# Altium schematic symbol library WR-MCX.SchLib: 13 symbols
Pins are listed as number, name and electrical type; pins without a type are passive.

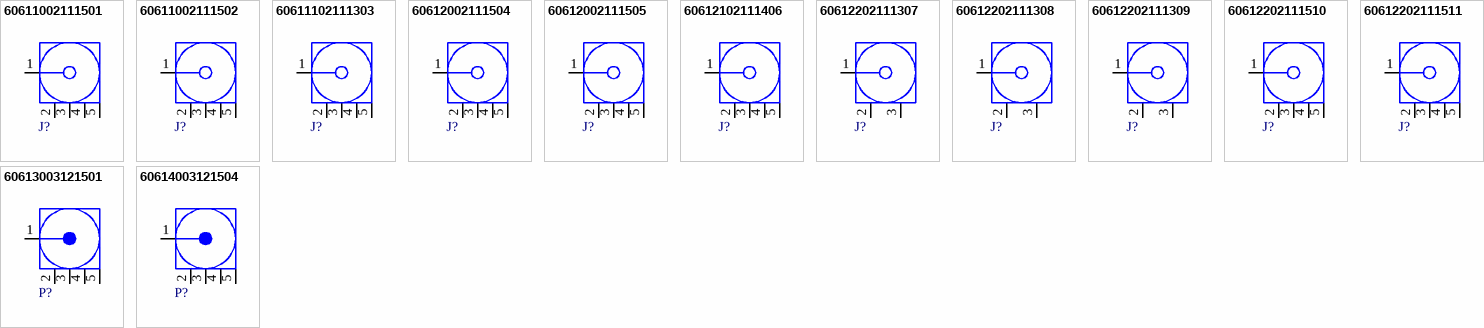
[diagram p0: symbols 60611002111501 to 60614003121504]

## 60611002111501
designator J?  (value not drawn)
WR-MCX PCB Jack, THT, Right Angle, Solder Leg 3.94mm; Manufacturer: Wurth Elektronik; Center Contact Diameter: 0.96mm; Connector Type: MCX; Frequency Range: DC~6GHz; Impedance: 50Ω; Interface Type: IEC 61169-36; ComponentLink1Description: Website Link; ComponentLink1URL: https://www.we-online.com/redexpert/article/60611002111501?ad; ComponentLink2Description: Datasheet Link; ComponentLink2URL: https://www.we-online.com/redexpert/spec/60611002111501?ad; Manufacturer Part Number: 60611002111501; Category: Coaxial Connectors; Match Code: WR-MCX; Mount: Through Hole; Operating Temperature Max: 155°C; Operating Temperature Min: -55°C; Packaging: Tray; Gender: Jack; Orientation: Right Angle
footprint 60611002111501
pins: 1 Signal "Signal Pin", 2 GND, 3 GND, 4 GND, 5 GND

## 60611002111502
designator J?  (value not drawn)
WR-MCX PCB Jack, THT, Right Angle, Solder Leg 1.73mm; Manufacturer: Wurth Elektronik; Center Contact Diameter: 0.96mm; Connector Type: MCX; Frequency Range: DC~6GHz; Impedance: 50Ω; Interface Type: IEC 61169-36; ComponentLink1Description: Website Link; ComponentLink1URL: https://www.we-online.com/redexpert/article/60611002111502?ad; ComponentLink2Description: Datasheet Link; ComponentLink2URL: https://www.we-online.com/redexpert/spec/60611002111502?ad; Manufacturer Part Number: 60611002111502; Category: Coaxial Connectors; Match Code: WR-MCX; Mount: Through Hole; Operating Temperature Max: 155°C; Operating Temperature Min: -55°C; Packaging: Tray; Gender: Jack; Orientation: Right Angle
footprint 60611002111502
pins: 1 Signal "Signal Pin", 2 GND, 3 GND, 4 GND, 5 GND

## 60611102111303
designator J?  (value not drawn)
WR-MCX PCB Jack, SMT, Right Angle; Manufacturer: Wurth Elektronik; Center Contact Diameter: 0.96mm; Connector Type: MCX; Frequency Range: DC~6GHz; Impedance: 50Ω; Interface Type: IEC 61169-36; ComponentLink1Description: Website Link; ComponentLink1URL: https://www.we-online.com/redexpert/article/60611102111303?ad; ComponentLink2Description: Datasheet Link; ComponentLink2URL: https://www.we-online.com/redexpert/spec/60611102111303?ad; Manufacturer Part Number: 60611102111303; Category: Coaxial Connectors; Match Code: WR-MCX; Mount: Surface Mount; Operating Temperature Max: 155°C; Operating Temperature Min: -55°C; Packaging: Tape and Reel; Gender: Jack; Orientation: Right Angle
footprint 60611102111303
pins: 1 Signal "Signal Pin", 2 GND, 3 GND, 4 GND, 5 GND

## 60612002111504
designator J?  (value not drawn)
WR-MCX PCB Jack, THT, Straight, Solder Leg 3.94mm; Manufacturer: Wurth Elektronik; Center Contact Diameter: 0.96mm; Connector Type: MCX; Frequency Range: DC~6GHz; Impedance: 50Ω; Interface Type: IEC 61169-36; ComponentLink1Description: Website Link; ComponentLink1URL: https://www.we-online.com/redexpert/article/60612002111504?ad; ComponentLink2Description: Datasheet Link; ComponentLink2URL: https://www.we-online.com/redexpert/spec/60612002111504?ad; Manufacturer Part Number: 60612002111504; Category: Coaxial Connectors; Match Code: WR-MCX; Mount: Through Hole; Operating Temperature Max: 155°C; Operating Temperature Min: -55°C; Packaging: Tray; Gender: Jack; Orientation: Straight
footprint 60612002111504
pins: 1 Signal "Signal Pin", 2 GND, 3 GND, 4 GND, 5 GND

## 60612002111505
designator J?  (value not drawn)
WR-MCX PCB Jack, THT, Straight, Solder Leg 1.73mm; Manufacturer: Wurth Elektronik; Center Contact Diameter: 0.96mm; Connector Type: MCX; Frequency Range: DC~6GHz; Impedance: 50Ω; Interface Type: IEC 61169-36; ComponentLink1Description: Website Link; ComponentLink1URL: https://www.we-online.com/redexpert/article/60612002111505?ad; ComponentLink2Description: Datasheet Link; ComponentLink2URL: https://www.we-online.com/redexpert/spec/60612002111505?ad; Manufacturer Part Number: 60612002111505; Category: Coaxial Connectors; Match Code: WR-MCX; Mount: Through Hole; Operating Temperature Max: 155°C; Operating Temperature Min: -55°C; Packaging: Tray; Gender: Jack; Orientation: Straight
footprint 60612002111505
pins: 1 Signal "Signal Pin", 2 GND, 3 GND, 4 GND, 5 GND

## 60612102111406
designator J?  (value not drawn)
WR-MCX PCB Jack, SMT, Straight; Manufacturer: Wurth Elektronik; Center Contact Diameter: 0.96mm; Connector Type: MCX; Frequency Range: DC~6GHz; Impedance: 50Ω; Interface Type: IEC 61169-36; ComponentLink1Description: Website Link; ComponentLink1URL: https://www.we-online.com/redexpert/article/60612102111406?ad; ComponentLink2Description: Datasheet Link; ComponentLink2URL: https://www.we-online.com/redexpert/spec/60612102111406?ad; Manufacturer Part Number: 60612102111406; Category: Coaxial Connectors; Match Code: WR-MCX; Mount: Surface Mount; Operating Temperature Max: 155°C; Operating Temperature Min: -55°C; Packaging: Tape and Reel; Gender: Jack; Orientation: Straight
footprint 60612102111406
pins: 1 Signal "Signal Pin", 2 GND, 3 GND, 4 GND, 5 GND

## 60612202111307
designator J?  (value not drawn)
WR-MCX PCB End Launch Jack, SMT, Straight, Edge Card for PCB 1.6mm max.; Manufacturer: Wurth Elektronik; Center Contact Diameter: 0.96mm; Connector Type: MCX; Frequency Range: DC~6GHz; Impedance: 50Ω; Interface Type: IEC 61169-36; ComponentLink1Description: Website Link; ComponentLink1URL: https://www.we-online.com/redexpert/article/60612202111307?ad; ComponentLink2Description: Datasheet Link; ComponentLink2URL: https://www.we-online.com/redexpert/spec/60612202111307?ad; Manufacturer Part Number: 60612202111307; Category: Coaxial Connectors; Match Code: WR-MCX; Mount: Surface Mount; Operating Temperature Max: 155°C; Operating Temperature Min: -55°C; Packaging: Tape and Reel; Gender: Jack; Orientation: Straight
footprint 60612202111307
pins: 1 Signal "Signal Pin", 2 GND, 3 GND

## 60612202111308
designator J?  (value not drawn)
WR-MCX PCB End Launch Jack, SMT, Straight, Edge Card Extented solder leg for PCB 1.6mm max.; Manufacturer: Wurth Elektronik; Center Contact Diameter: 0.96mm; Connector Type: MCX; Frequency Range: DC~6GHz; Impedance: 50Ω; Interface Type: IEC 61169-36; ComponentLink1Description: Website Link; ComponentLink1URL: https://www.we-online.com/redexpert/article/60612202111308?ad; ComponentLink2Description: Datasheet Link; ComponentLink2URL: https://www.we-online.com/redexpert/spec/60612202111308?ad; Manufacturer Part Number: 60612202111308; Category: Coaxial Connectors; Match Code: WR-MCX; Mount: Surface Mount; Operating Temperature Max: 155°C; Operating Temperature Min: -55°C; Packaging: Tape and Reel; Gender: Jack; Orientation: Straight
footprint 60612202111308
pins: 1 Signal "Signal Pin", 2 GND, 3 GND

## 60612202111309
designator J?  (value not drawn)
WR-MCX PCB End Launch Jack, SMT, Straight, Reversible Edge Card for PCB 1.6mm max.; Manufacturer: Wurth Elektronik; Center Contact Diameter: 0.5mm; Connector Type: MCX; Frequency Range: DC~6GHz; Impedance: 50Ω; Interface Type: IEC 61169-36; ComponentLink1Description: Website Link; ComponentLink1URL: https://www.we-online.com/redexpert/article/60612202111309?ad; ComponentLink2Description: Datasheet Link; ComponentLink2URL: https://www.we-online.com/redexpert/spec/60612202111309?ad; Manufacturer Part Number: 60612202111309; Category: Coaxial Connectors; Match Code: WR-MCX; Mount: Surface Mount; Operating Temperature Max: 155°C; Operating Temperature Min: -55°C; Packaging: Tape and Reel; Gender: Jack; Orientation: Straight
footprint 60612202111309
pins: 1 Signal "Signal Pin", 2 GND, 3 GND

## 60612202111510
designator J?  (value not drawn)
WR-MCX PCB End Launch Jack, SMT, Straight, Pin Edge for PCB 1.1mm; Manufacturer: Wurth Elektronik; Center Contact Diameter: 0.48mm; Connector Type: MCX; Frequency Range: DC~6GHz; Impedance: 50Ω; Interface Type: IEC 61169-36; ComponentLink1Description: Website Link; ComponentLink1URL: https://www.we-online.com/redexpert/article/60612202111510?ad; ComponentLink2Description: Datasheet Link; ComponentLink2URL: https://www.we-online.com/redexpert/spec/60612202111510?ad; Manufacturer Part Number: 60612202111510; Category: Coaxial Connectors; Match Code: WR-MCX; Mount: Surface Mount; Operating Temperature Max: 155°C; Operating Temperature Min: -55°C; Packaging: Tape and Reel; Gender: Jack; Orientation: Straight
footprint 60612202111510
pins: 1 Signal "Signal Pin", 2 GND, 3 GND, 4 GND, 5 GND

## 60612202111511
designator J?  (value not drawn)
WR-MCX PCB End Launch Jack, SMT, Straight, Pin Edge for PCB 1.6mm; Manufacturer: Wurth Elektronik; Center Contact Diameter: 0.48mm; Connector Type: MCX; Frequency Range: DC~6GHz; Impedance: 50Ω; Interface Type: IEC 61169-36; ComponentLink1Description: Website Link; ComponentLink1URL: https://www.we-online.com/redexpert/article/60612202111511?ad; ComponentLink2Description: Datasheet Link; ComponentLink2URL: https://www.we-online.com/redexpert/spec/60612202111511?ad; Manufacturer Part Number: 60612202111511; Category: Coaxial Connectors; Match Code: WR-MCX; Mount: Surface Mount; Operating Temperature Max: 155°C; Operating Temperature Min: -55°C; Packaging: Tape and Reel; Gender: Jack; Orientation: Straight
footprint 60612202111511
pins: 1 Signal "Signal Pin", 2 GND, 3 GND, 4 GND, 5 GND

## 60613003121501
designator P?  (value not drawn)
WR-MCX PCB Plug, THT, Right Angle, Solder Leg 3.94mm; Manufacturer: Wurth Elektronik; Center Contact Diameter: 0.96mm; Connector Type: MCX; Frequency Range: DC~6GHz; Impedance: 50Ω; Interface Type: IEC 61169-36; ComponentLink1Description: Website Link; ComponentLink1URL: https://www.we-online.com/redexpert/article/60613003121501?ad; ComponentLink2Description: Datasheet Link; ComponentLink2URL: https://www.we-online.com/redexpert/spec/60613003121501?ad; Manufacturer Part Number: 60613003121501; Category: Coaxial Connectors; Match Code: WR-MCX; Mount: Through Hole; Operating Temperature Max: 155°C; Operating Temperature Min: -55°C; Packaging: Tray; Gender: Plug; Orientation: Right Angle
footprint 60613003121501
pins: 1 Signal "Signal Pin", 2 GND, 3 GND, 4 GND, 5 GND

## 60614003121504
designator P?  (value not drawn)
WR-MCX PCB Plug, THT, Straight, Solder Leg 3.94mm; Manufacturer: Wurth Elektronik; Center Contact Diameter: 0.96mm; Connector Type: MCX; Frequency Range: DC~6GHz; Impedance: 50Ω; Interface Type: IEC 61169-36; ComponentLink1Description: Website Link; ComponentLink1URL: https://www.we-online.com/redexpert/article/60614003121504?ad; ComponentLink2Description: Datasheet Link; ComponentLink2URL: https://www.we-online.com/redexpert/spec/60614003121504?ad; Manufacturer Part Number: 60614003121504; Category: Coaxial Connectors; Match Code: WR-MCX; Mount: Through Hole; Operating Temperature Max: 155°C; Operating Temperature Min: -55°C; Packaging: Tray; Gender: Plug; Orientation: Straight
footprint 60614003121504
pins: 1 Signal "Signal Pin", 2 GND, 3 GND, 4 GND, 5 GND